# Altium footprint library HEADER10X2_SMD.PcbLib: 1 footprints
Each footprint in its own frame and in the unit in brackets; x right, y up, seen from the top. Pads: shape width x height; smd on the part's side, far side on the other; paste and mask are expansions set on the pad; w line width, h text height; cw(c..) or ccw(c..) is an arc to the next point about the centre after c.
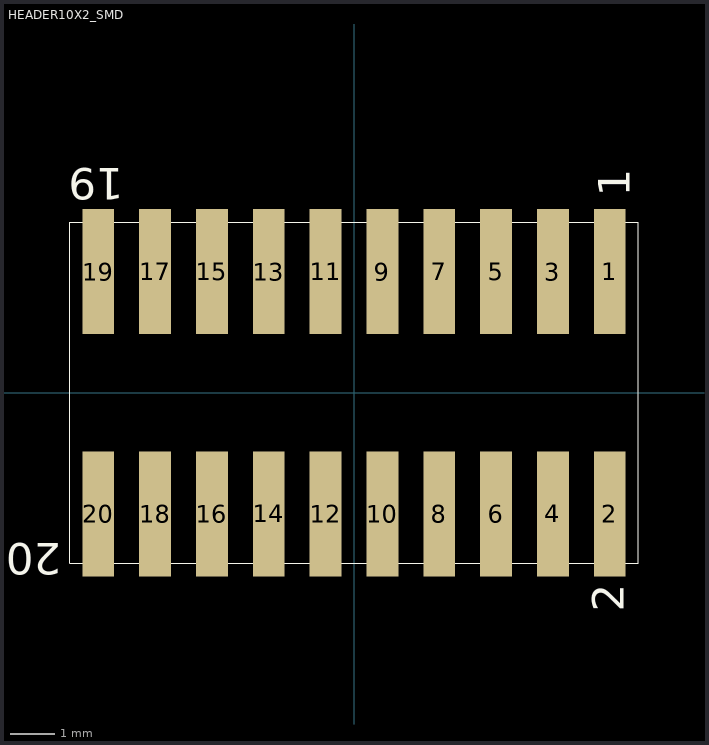
[diagram p0: the footprint, top view; thin cyan lines are the x and y axes]

## HEADER10X2_SMD [mil] "HEADER10X2_SMD"
pads (20):
  rect 28x110 smd mask+2: 1(225,106.5) 2(225,-106.5) 3(175,106.5) 4(175,-106.5) 5(125,106.5) 6(125,-106.5) 7(75,106.5) 8(75,-106.5) 9(25,106.5) 10(25,-106.5) 11(-25,106.5) 12(-25,-106.5) 13(-75,106.5) 14(-75,-106.5) 15(-125,106.5) 16(-125,-106.5) 17(-175,106.5) 18(-175,-106.5) 19(-225,106.5) 20(-225,-106.5)
Top Overlay:
  lines w1: -250,-150 -250,150 250,150 250,-150 -250,-150
  text "20" at -257.5,-132.5 h28
  text "19" at -202.5,197.5 h28
  text "2" at 237.5,-192.5 h28
  text "1" at 242.5,172.5 h28
3D body "Header v1.step": height 273.43, standoff -1.57, extent -250.01,-149.01 249.99,146.99